# EAGLE library part MAX31855KASA+ (library HyTechDevices-ltc4421 components)
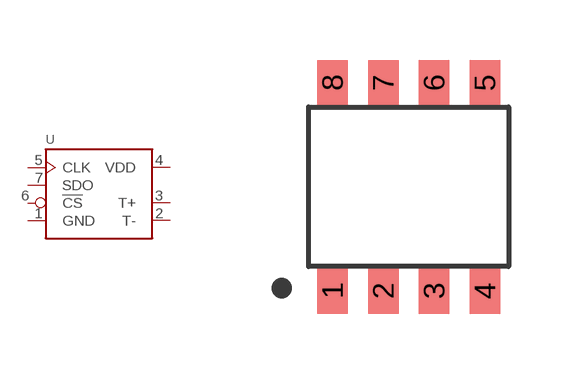
[diagram p22: symbol with the pads of SOIC-08; footprint SOIC-08]

Designator prefix U

## MAX31855KASA+  [SOIC-08]
1  GND  pwr
2  T-  in
3  T+  in
4  VDD  pwr
5  CLK  in
6  !CS  in
7  SDO  out

## Footprint SOIC-08 (pad centres in mm)
SOIC-8 Datasheet <https://www.analog.com/media/en/package-pcb-resources/package/pkg_pdf/ltc-legacy-soic/05081610_G_SO8.pdf>
smd 0.762 x 1.143: 1 -1.905,-2.603; 2 -0.635,-2.603; 3 0.635,-2.603; 4 1.905,-2.603; 5 1.905,2.603; 6 0.635,2.603; 7 -0.635,2.603; 8 -1.905,2.603